# EAGLE library part OPTO-PIXEL.COMBINED (library LED Test)
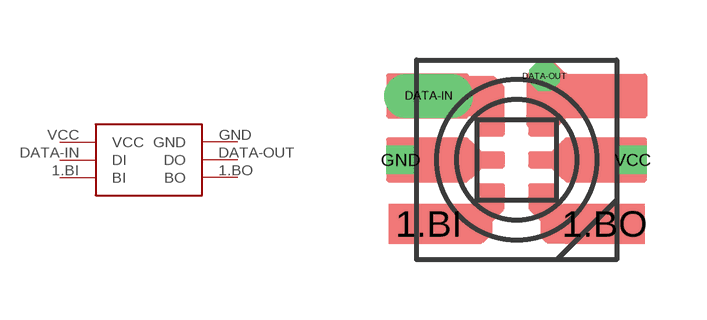
[diagram p1: symbol with the pads of COMBINED4; footprint COMBINED4]

Designator prefix -

## OPTO-PIXEL.COMBINEDCOMBINED-V1.04  [COMBINED4]
1.BI  BI
1.BO  BO
DATA-IN  DI
DATA-OUT  DO
GND  GND
VCC  VCC

## Footprint COMBINED4 (pad centres in mm)
smd 2 x 1: 1.BI -2.2,-1.6; 1.BO 2.2,-1.6
drill 0.6 long: DATA-IN -2.2,1.6
drill 0.25 octagon: DATA-OUT 0.7,2.1
drill 0.2 square: GND -2.9,0; VCC 2.9,0